# Altium schematic symbol library SCH - Oscillators - 2p.SchLib: 1 symbol
Pins are listed as number, name and electrical type; pins without a type are passive.

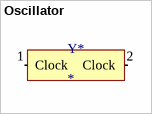
[diagram p0: symbol Oscillator]

## Oscillator
designator Y*
pins: 1 Clock (in), 2 Clock (in)